# Altium footprint library SumWkshop.PcbLib: 2 footprints
Each footprint in its own frame and in the unit in brackets; x right, y up, seen from the top. Pads: shape width x height; smd on the part's side, far side on the other; paste and mask are expansions set on the pad; w line width, h text height; cw(c..) or ccw(c..) is an arc to the next point about the centre after c.
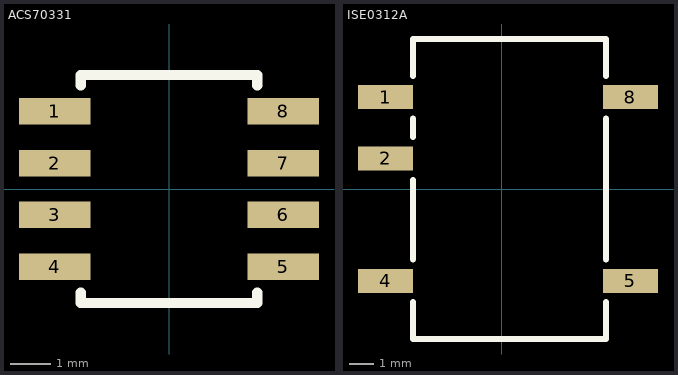
[diagram p0: the footprints below, top view; thin cyan lines are the x and y axes]

## ACS70331 [mil]
pads (8):
  rect 68.9x25.6 smd: 1(-110.24,75) 2(-110.24,25) 3(-110.24,-25) 4(-110.24,-75) 5(110.24,-75) 6(110.24,-25) 7(110.24,25) 8(110.24,75)
Top Overlay:
  lines w10: -85,-100 -85,-110 85,-110 85,-100 ; -85,100 -85,110 85,110 85,100
3D body "Allegro-OL-8-Package.STEP": height 61.75, standoff -1.25, extent -118.01,-96.64 118.21,96.27

## ISE0312A [mil]
height 287
pads (5):
  rect 90x39 smd: 1(-190,150) 2(-190,50) 4(-190,-150) 5(210,-150) 8(210,150)
Top Overlay:
  lines w10: -145,-185 -145,-245 170,-245 170,-185 ; -145,-115 -145,15 ; -145,85 -145,115 ; -145,185 -145,245 170,245 170,185 ; 170,-115 170,115
3D body "ISE.STEP": height 285.01, standoff -0.43, extent -210.47,-250 230.47,250